# EAGLE library part LTC3561 (library IC)
Linear Technology 1A, 4MHz, Synchronous Ste-Down DC/DC Converter
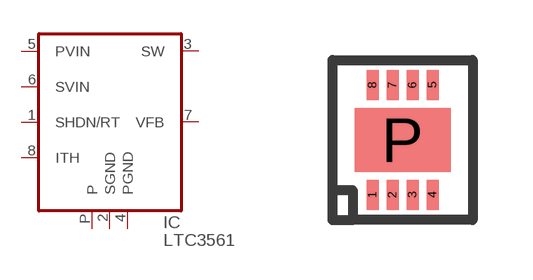
[diagram p164: symbol with the pads of DFN8; footprint DFN8]

Designator prefix IC

## LTC3561DD, LTC3561ADD  [DFN8]
1  SHDN/RT
2  SGND  pwr
3  SW
4  PGND  pwr
5  PVIN  pwr
6  SVIN  pwr
7  VFB
8  ITH
P  P  pwr

## Footprint DFN8 (pad centres in mm)
8 Lead Plastic DFN (3mm x 3mm) LTC DD package
smd 0.3 x 0.75: 1 -0.75,-1.375; 2 -0.25,-1.375; 3 0.25,-1.375; 4 0.75,-1.375; 5 0.75,1.375; 6 0.25,1.375; 7 -0.25,1.375; 8 -0.75,1.375
smd 2.4 x 1.6: P 0,0